# EAGLE library part SN74LVC2G157 (library zz-m-pad-2.1)
Ti's SN74LVC2G157 SINGLE 2-LINE TO 1-LINE DATA SELECTOR/MULTIPLEXER Description: This single 2-line to 1-line data selector/multiplexer is designed for 1.65-V to 5.5-V VCC operation. The SN74LVC2G157 features a common strobe (G) input. When the strobe is high, Y is low and Y is high. When the strobe is low, a single bit is selected from one of two sources and is routed to the outputs. The device provides true and complementary data. NanoStar and NanoFree package technology is a major breakthrough in IC packaging concepts, using the die as the package. This device is fully specified for partial-power-down applications using Ioff. The Ioff circuitry disables the outputs, preventing damaging current backflow through the device when it is powered down. Features: Available in the Texas Instruments NanoStar and NanoFree Packages Supports 5-V VCC Operation Inputs Accept Voltages to 5.5 V Max tpd of 6 ns at 3.3 V Low Power Consumption, 10-uA Max ICC ±24-mA Output Drive at 3.3 V Typical VOLP (Output Ground Bounce) less then 0.8 V at VCC = 3.3 V, TA = 25°C Typical VOHV (Output VOH Undershoot) greater then 2 V at VCC = 3.3 V, TA = 25°C Ioff Supports Partial-Power-Down Mode Operation Latch-Up Performance Exceeds 100 mA Per JESD 78, Class II ESD Protection Exceeds JESD 22 - 2000-V Human-Body Model (A114-A) - 1000-V Charged-Device Model (C101) Please send any comments to: messi@users.sourceforge.net
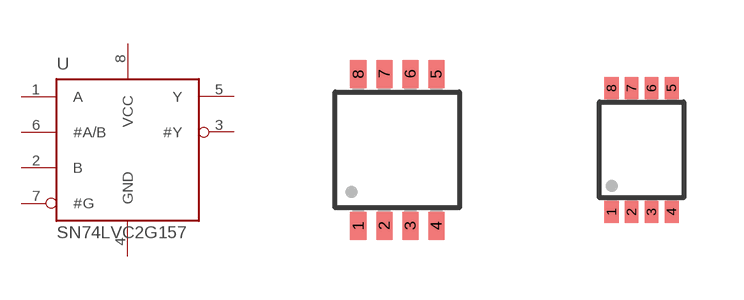
[diagram p102: symbol with the pads of SSOP8; footprints SSOP8, VSSOP8]

Designator prefix U

## SN74LVC2G157-DCT  [SSOP8]
1  A  in
2  B  in
3  #Y  out
4  GND  pwr
5  Y  out
6  #A/B  in
7  #G  in
8  VCC  pwr

## SN74LVC2G157-DCU  [VSSOP8]
Pads as for SSOP8

## Footprint SSOP8 (pad centres in mm)
smd 0.4 x 0.7: 1 -0.975,-1.9; 2 -0.325,-1.9; 3 0.325,-1.9; 4 0.975,-1.9; 5 0.975,1.9; 6 0.325,1.9; 7 -0.325,1.9; 8 -0.975,1.9

## Footprint VSSOP8 (pad centres in mm)
smd 0.35 x 0.55: 1 -0.75,-1.55; 2 -0.25,-1.55; 3 0.25,-1.55; 4 0.75,-1.55; 5 0.75,1.55; 6 0.25,1.55; 7 -0.25,1.55; 8 -0.75,1.55